# Altium integrated library Inductor SMD 4mm.IntLib: 1 symbol
Pins are listed as number, name and electrical type; pins without a type are passive.

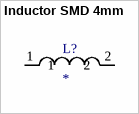
[diagram p0: symbol Inductor SMD 4mm]

## Inductor SMD 4mm
designator L?
footprint Inductor SMD 4mm
pins: 1, 2